# EAGLE library part LMC6482AIMX/NOPB (library other)
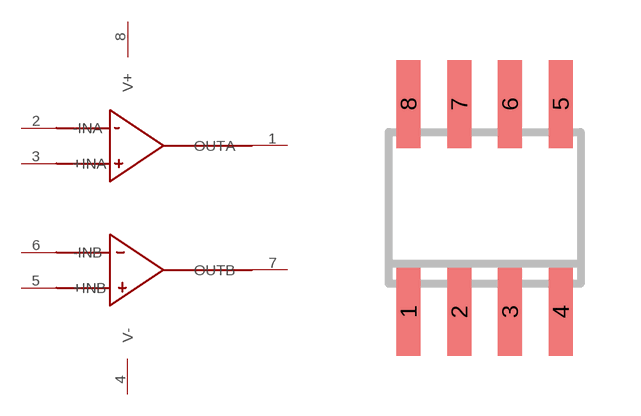
[diagram p0: symbol with the pads of SO8; footprint SO8]

Designator prefix -

## LMC6482AIMX/NOPB  [SO8]
1  OUTA
2  -INA
3  +INA
4  V-
5  +INB
6  -INB
7  OUTB
8  V+

## Footprint SO8 (pad centres in mm)
smd 0.6 x 2.2: 1 -1.905,-2.6; 2 -0.635,-2.6; 3 0.635,-2.6; 4 1.905,-2.6; 5 1.905,2.6; 6 0.635,2.6; 7 -0.635,2.6; 8 -1.905,2.6